# Altium footprint library Con USB.PcbLib: 34 footprints (part 1 of 3)
Each footprint in its own frame and in the unit in brackets; x right, y up, seen from the top. Pads: shape width x height; smd on the part's side, far side on the other; paste and mask are expansions set on the pad; w line width, h text height; cw(c..) or ccw(c..) is an arc to the next point about the centre after c.
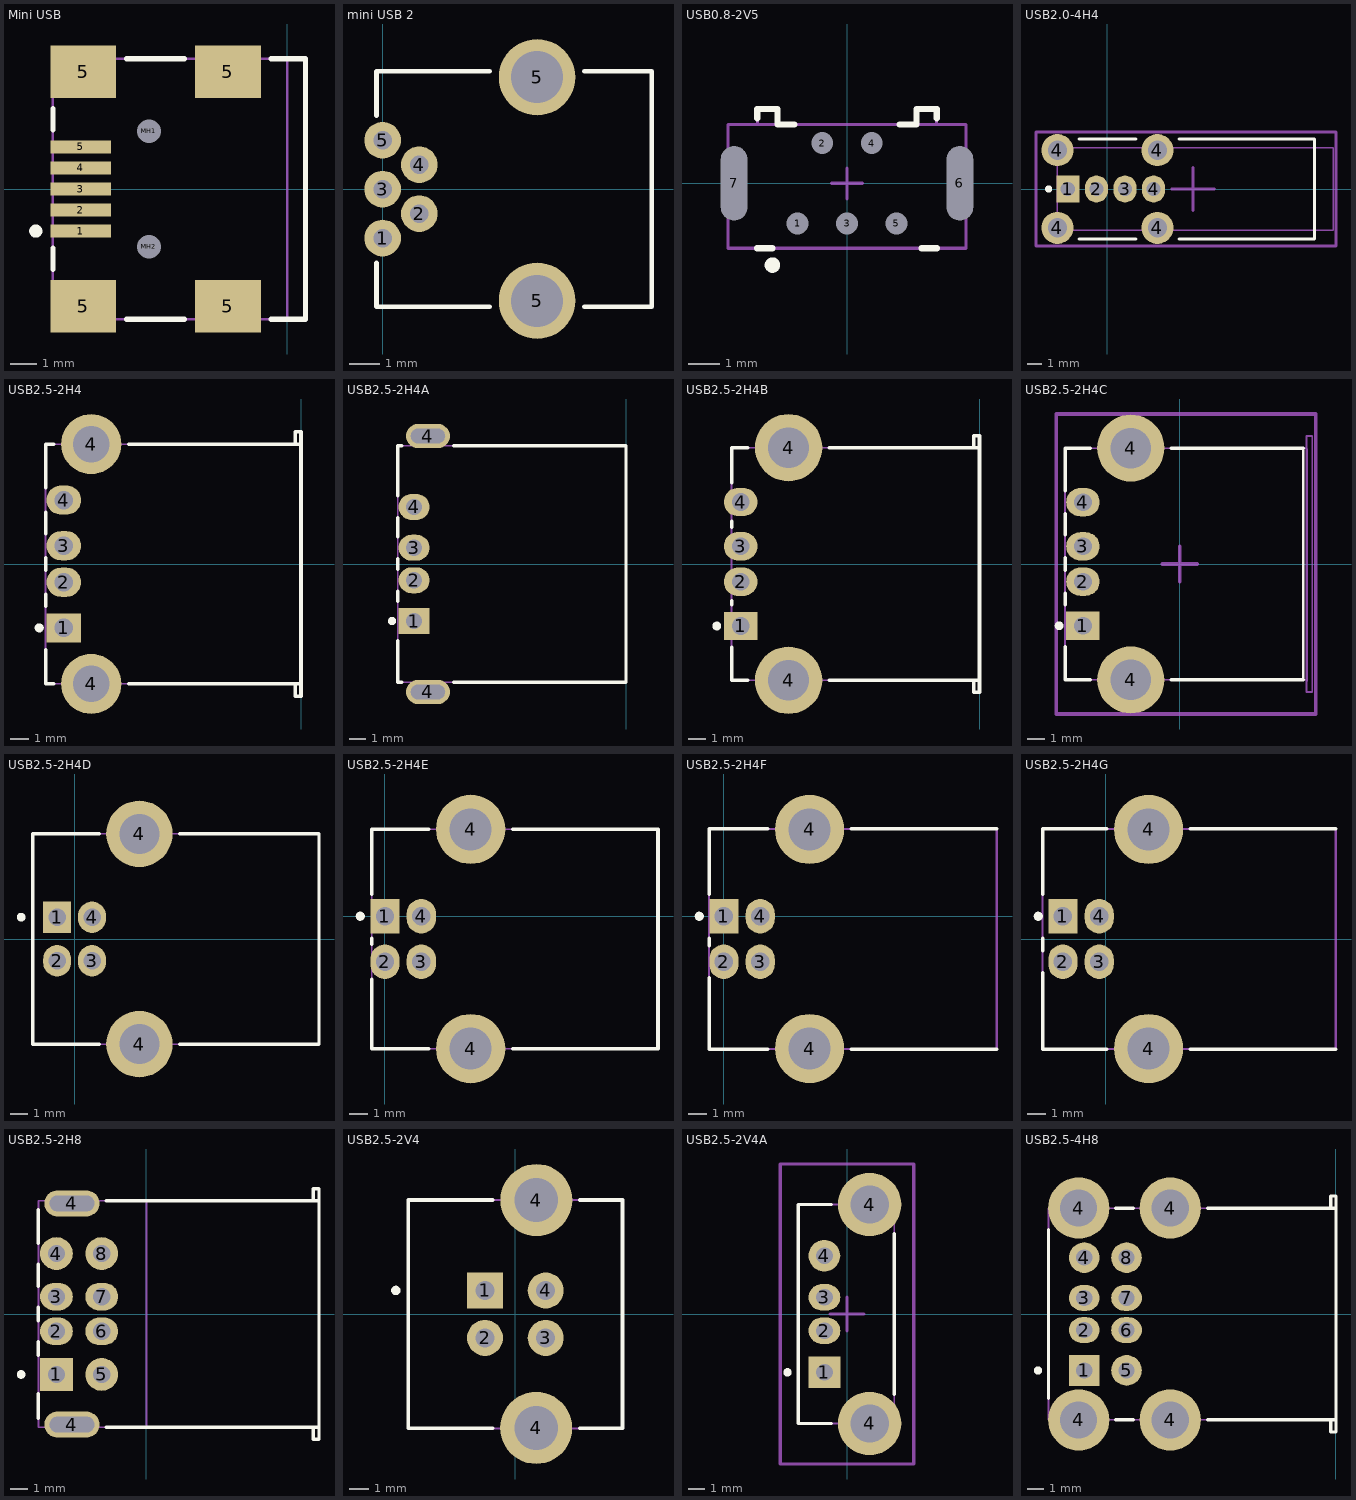
[diagram p0: the footprints below, top view; thin cyan lines are the x and y axes]

## Mini USB [mm]
pads (11):
  rect 2.3x0.5 smd: 1(-7.85,-1.6) 2(-7.85,-0.8) 3(-7.85,0) 4(-7.85,0.8) 5(-7.85,1.6)
  rect 2.5x2 smd: 5(-7.75,-4.45) 5(-7.75,4.45) 5(-2.25,-4.45) 5(-2.25,4.45)
  round 0.6 hole 0.9 unplated: MH1(-5.25,2.2) MH2(-5.25,-2.2)
Top Overlay:
  circle w0.25: c-9.55,-1.6 r0.125
  lines w0.2: -8.9,-3.05 -8.9,-2.25 ; -8.9,2.25 -8.9,3.05 ; -6.1,-4.95 -3.9,-4.95 ; -6.1,4.95 -3.9,4.95 ; -0.6,-4.95 0.7,-4.95 0.7,4.95 -0.6,4.95
Mechanical 1:
  lines w0.1: 0,-4.95 0,4.95
  text "PCB Edge" at 0.432,-4.036 h0.25
Mechanical 13:
  lines w0.1: -8.9,-4.95 0.7,-4.95 0.7,4.95 -8.9,4.95 -8.9,-4.95
3D body "usb_a-usb_b-m5-smd-c.STEP": height 3.93, standoff -1, extent -8.6,-4.95 0.65,4.95
3D body "Samtec-DEFAULT.STEP": height 5.8, standoff -1.8, extent -6.257,-5.644 40.343,5.156

## mini USB 2 [mm]
pads (7):
  round 1.2 hole 0.6: 1(0,-1.6) 2(1.2,-0.8) 3(0,0) 4(1.2,0.8) 5(0,1.6)
  round 2.5 hole 1.7: 5(5.05,-3.65) 5(5.05,3.66)
Top Overlay:
  lines w0.15: -0.2,-2.4 -0.2,-3.85 3.5,-3.85 ; -0.2,2.4 -0.2,3.85 3.5,3.85 ; 6.6,-3.85 8.8,-3.85 8.8,3.85 6.6,3.85
3D body "Samtec-DEFAULT.STEP": height 5.8, standoff -1.8, extent 4.64,-5.588 51.24,5.212
3D body "5877.STEP": height 3.95, standoff -1.8, extent -0.2,-3.85 8.8,3.85

## USB0.8-2V5 [mm] "Connector; USB Mini-B, Type 2, Thru-Hole; 5 Position; Vertical"
height 7.7
pads (7):
  round 0.4 / inner round 0.4 / far side oval 1.1x1.7 hole 0.7: 1(-1.6,-1.3) 2(-0.8,1.3) 3(0,-1.3) 4(0.8,1.3) 5(1.6,-1.3)
  oval 0.55x2.1 / inner oval 0.55x2.1 / far side oval 1.6x3.9 hole 0.85 slot 2.4 at 90 deg: 6(3.65,0) 7(-3.65,0)
Top Overlay:
  circle w0.25: c-2.41,-2.645 r0.125
  lines w0.2: -2.91,-2.1 -2.41,-2.1 ; -2.9,2.1 -2.9,2.4 -2.25,2.4 -2.25,1.9 -1.7,1.9 ; 1.7,1.9 2.25,1.9 2.25,2.4 2.9,2.4 2.9,2.1 ; 2.41,-2.1 2.91,-2.1
Mechanical 13:
  lines w0.1: -2.9,1.9 -2.9,2.4 -2.25,2.4 -2.25,1.9 ; 2.25,1.9 2.25,2.4 2.9,2.4 2.9,1.9 ; -3.85,-2.1 -3.85,1.9 3.85,1.9 3.85,-2.1 -3.85,-2.1
Mechanical 15:
  lines w0.1: -0.5,0 0.5,0 ; 0,-0.5 0,0.5
3D body: height 7.7, standoff 0, extent -2.899,1.901 -2.251,2.399
3D body: height 7.7, standoff 0, extent 2.251,1.901 2.899,2.399
3D body: height 7.7, standoff 0, extent -3.849,-2.099 3.849,1.899

## USB2.0-4H4 [mm] "Connector; USB1.1, Type A, Thru-Hole; 4 Position; Right Angle DESIGNER ABBAS BASEREH"
height 13.83
pads (8):
  rect 1.6x1.9 hole 1: 1(-2.77,0)
  oval 1.6x1.9 hole 1: 2(-0.77,0) 3(1.23,0) 4(3.23,0)
  round 2.25 hole 1.35: 4(-3.5,-2.72) 4(-3.5,2.72) 4(3.5,-2.72) 4(3.5,2.72)
Top Overlay:
  circle w0.25: c-4.12,0 r0.125
  lines w0.2: -1.98,-3.5 2,-3.5 ; -1.98,3.5 2,3.5 ; 5.01,-3.5 14.5,-3.5 14.5,3.5 5.01,3.5
Mechanical 13:
  lines w0.1: -3.5,-2.88 -3.5,2.88 15.79,2.88 15.79,-2.88 -3.5,-2.88
Mechanical 15:
  lines w0.2: 4.5,0 7.5,0 ; 6,-1.5 6,1.5 ; -5,-4 16,-4 16,4 -5,4 -5,-4
3D body "usb_a-usb_a-e.stp": height 14.25, standoff -3.9, extent -3.995,-3.564 15.255,3.556

## USB2.5-2H4 [mm] "Connector; USB1.1, Series A, Reverse Type, Thru-Hole; 4 Position; Right Angle"
height 6.5
pads (6):
  rect 1.9x1.6 hole 1: 1(-13,-3.5)
  oval 1.9x1.6 hole 1: 2(-13,-1) 3(-13,1) 4(-13,3.5)
  round 3.3 hole 2: 4(-11.5,-6.57) 4(-11.5,6.57)
Top Overlay:
  circle w0.25: c-14.35,-3.5 r0.125
  lines w0.2: -14,-4.7 -14,-6.565 -13.55,-6.565 ; -14,-2.3 -14,-1.67 ; -14,-0.33 -14,0.33 ; -14,1.67 -14,2.83 ; -14,4.17 -14,6.565 -13.55,6.565 ; -9.45,-6.565 0,-6.565 ; -9.45,6.565 0,6.565 ; -0.32,-6.565 -0.32,-7.25 0,-7.25 0,7.25 -0.32,7.25 -0.32,6.565
Mechanical 1:
  lines w0.1: 0,-7.25 0,7.25
  text "PCB Edge" at -0.336,-6.303 h0.25
Mechanical 13:
  lines w0.1: -14,-6.565 -14,6.565 -0.32,6.565 -0.32,7.25 0,7.25 0,-7.25 -0.32,-7.25 -0.32,-6.565 -14,-6.565

## USB2.5-2H4A [mm] "Connector; USB1.1, Series A, Reverse Type, Thru-Hole; 4 Position; Right Angle"
height 6.5
pads (6):
  rect 1.9x1.6 hole 1: 1(-13,-3.5)
  oval 1.9x1.6 hole 1: 2(-13,-1) 3(-13,1) 4(-13,3.5)
  oval 2.7x1.5 hole 0.9 slot 2.1 at 0 deg: 4(-12.15,-7.85) 4(-12.15,7.85)
Top Overlay:
  circle w0.25: c-14.35,-3.5 r0.125
  lines w0.2: -14,-4.7 -14,-7.25 -13.74,-7.25 ; -14,-2.3 -14,-1.67 ; -14,-0.33 -14,0.33 ; -14,1.67 -14,2.83 ; -14,4.17 -14,7.25 -13.74,7.25 ; -10.56,-7.25 0,-7.25 0,7.25 -10.56,7.25
Mechanical 1:
  lines w0.1: 0,-7.25 0,7.25
  text "PCB Edge" at -0.324,-6.966 h0.25
Mechanical 13:
  lines w0.1: -14,-7.25 0,-7.25 0,7.25 -14,7.25 -14,-7.25

## USB2.5-2H4B [mm] "Connector; USB1.1, Type A, Thru-Hole; 4 Position; Right Angle"
height 7.01
pads (6):
  rect 1.9x1.6 hole 1: 1(-13.49,-3.5)
  oval 1.9x1.6 hole 1: 2(-13.49,-1) 3(-13.49,1) 4(-13.49,3.5)
  round 3.8 hole 2.3: 4(-10.78,-6.57) 4(-10.78,6.57)
Top Overlay:
  circle w0.25: c-14.84,-3.5 r0.125
  lines w0.2: -14,-4.7 -14,-6.565 -13.08,-6.565 ; -14,-2.3 -14,-2.09 ; -14,2.09 -14,2.41 ; -14,4.59 -14,6.565 -13.08,6.565 ; -8.48,-6.565 0,-6.565 ; -8.48,6.565 0,6.565 ; -0.32,-6.565 -0.32,-7.25 0,-7.25 0,-6.565 ; -0.32,6.565 -0.32,7.25 0,7.25 0,6.565 ; 0,-6.565 0,6.565
Mechanical 13:
  lines w0.1: -14,-6.565 -0.32,-6.565 -0.32,-7.25 0,-7.25 0,7.25 -0.32,7.25 -0.32,6.565 -14,6.565 -14,-6.565

## USB2.5-2H4C [mm] "Connector; USB1.1, Type A, Thru-Hole; 4 Position; Right Angle DESIGNER ABBAS BASEREH"
height 7.01
pads (6):
  rect 1.9x1.6 hole 1: 1(-5.49,-3.5)
  oval 1.9x1.6 hole 1: 2(-5.49,-1) 3(-5.49,1) 4(-5.49,3.5)
  round 3.8 hole 2.3: 4(-2.78,-6.57) 4(-2.78,6.57)
Top Overlay:
  circle w0.25: c-6.84,-3.5 r0.125
  lines w0.15: 7,-6.565 7,6.565
  lines w0.2: -6.5,-4.7 -6.5,-6.565 -5.08,-6.565 ; -6.5,-2.3 -6.5,-1.66 ; -6.5,-0.34 -6.5,0.34 ; -6.5,1.66 -6.5,2.84 ; -6.5,4.16 -6.5,6.565 -5.08,6.565 ; -0.48,-6.565 7,-6.565 ; -0.48,6.565 7,6.565
Mechanical 1:
  lines w0.15: 7.2,-6.6 7.2,6.5
Mechanical 13:
  lines w0.1: -6.5,-6.565 7.18,-6.565 7.18,-7.25 7.5,-7.25 7.5,7.25 7.18,7.25 7.18,6.565 -6.5,6.565 -6.5,-6.565
Mechanical 15:
  lines w0.2: -1,0 1,0 ; 0,-1 0,1 ; -7,-8.5 7.7,-8.5 7.7,8.5 -7,8.5 -7,-8.5
3D body "14388.STEP": height 7.35, standoff -3.5, extent -6.902,-7.9 7.598,7.9

## USB2.5-2H4D [mm] "Connector; USB1.1, Type B, Thru-Hole; 4 Position; Right Angle"
height 11.1
pads (6):
  rect 1.6x1.8 hole 1: 1(-1,1.25)
  oval 1.6x1.8 hole 1: 2(-1,-1.25) 3(1,-1.25) 4(1,1.25)
  round 3.8 hole 2.3: 4(3.71,-6.02) 4(3.71,6.02)
Top Overlay:
  circle w0.25: c-3.06,1.25 r0.125
  lines w0.2: 1.41,-6.02 -2.41,-6.02 -2.41,6.02 1.41,6.02 ; 6.01,-6.02 13.99,-6.02 13.99,6.02 6.01,6.02
Mechanical 13:
  lines w0.1: -2.41,-6.02 13.99,-6.02 13.99,6.02 -2.41,6.02 -2.41,-6.02
3D body "Samtec-DEFAULT.STEP": height 11.05, standoff 0.55, extent 3.937,-5.625 69.887,5.575
3D body "14389.STEP": height 10.95, standoff -3.7, extent -2.5,-7.45 14,7.45

## USB2.5-2H4E [mm] "Connector; USB1.1, Type B, Thru-Hole; 4 Position; Right Angle"
height 11.5
pads (6):
  rect 1.6x1.9 hole 1: 1(0,0)
  oval 1.6x1.9 hole 1: 2(0,-2.5) 3(2,-2.5) 4(2,0)
  round 3.8 hole 2.3: 4(4.71,-7.27) 4(4.71,4.77)
Top Overlay:
  circle w0.25: c-1.35,0 r0.125
  lines w0.2: -0.72,-3.46 -0.72,-7.27 2.41,-7.27 ; -0.72,-1.54 -0.72,-1.2 ; -0.72,1.2 -0.72,4.77 2.41,4.77 ; 7.01,-7.27 14.99,-7.27 14.99,4.77 7.01,4.77
Mechanical 13:
  lines w0.1: -0.72,-7.27 14.99,-7.27 14.99,4.77 -0.72,4.77 -0.72,-7.27
3D body "14389.STEP": height 10.95, standoff -3.7, extent -1.5,-8.7 15,6.2

## USB2.5-2H4F [mm] "Connector; USB1.1, Type B, Thru-Hole; 4 Position; Right Angle"
height 10.95
pads (6):
  rect 1.6x1.9 hole 1: 1(0,0)
  oval 1.6x1.9 hole 1: 2(0,-2.5) 3(2,-2.5) 4(2,0)
  round 3.8 hole 2.3: 4(4.71,-7.27) 4(4.71,4.77)
Top Overlay:
  circle w0.25: c-1.35,0 r0.125
  lines w0.2: -0.81,-3.39 -0.81,-7.3 2.41,-7.3 ; -0.81,-1.61 -0.81,-1.2 ; -0.81,1.2 -0.81,4.8 2.41,4.8 ; 7.01,-7.3 14.99,-7.3 ; 7.01,4.8 14.99,4.8
Mechanical 1:
  lines w0.1: 15.01,-7.3 15.01,4.8
  text "PCB Edge" at 14.685,-6.902 h0.25
Mechanical 13:
  lines w0.1: -0.81,-7.3 14.99,-7.3 14.99,4.8 -0.81,4.8 -0.81,-7.3
3D body "14389.STEP": height 10.95, standoff -3.7, extent -1.5,-8.7 15,6.2

## USB2.5-2H4G [mm] "Connector; USB1.1, Type B, Thru-Hole; 4 Position; Right Angle"
height 10.95
pads (6):
  rect 1.6x1.9 hole 1: 1(-2.355,1.25)
  oval 1.6x1.9 hole 1: 2(-2.355,-1.25) 3(-0.355,-1.25) 4(-0.355,1.25)
  round 3.8 hole 2.3: 4(2.355,-6.02) 4(2.355,6.02)
Top Overlay:
  circle w0.25: c-3.705,1.25 r0.125
  lines w0.2: -3.465,-1.85 -3.465,-6.05 0.055,-6.05 ; -3.465,-0.65 -3.465,0.05 ; -3.465,2.45 -3.465,6.05 0.055,6.05 ; 4.655,-6.05 12.635,-6.05 ; 4.655,6.05 12.635,6.05
Mechanical 1:
  lines w0.1: 12.655,-6.05 12.655,6.05
  text "PCB Edge" at 12.33,-5.651 h0.25
Mechanical 13:
  lines w0.1: -3.465,-6.05 12.635,-6.05 12.635,6.05 -3.465,6.05 -3.465,-6.05
3D body "14389.STEP": height 10.95, standoff -3.7, extent -3.855,-7.45 12.645,7.45
3D body "Samtec-DEFAULT.STEP": height 11.05, standoff 0.55, extent 2.582,-5.625 68.532,5.575

## USB2.5-2H8 [mm] "Connector; USB1.1, Type A, Thru-Hole; 4x4 Position; Right Angle"
height 15.51
pads (10):
  rect 1.9x1.9 hole 1: 1(-5.21,-3.5)
  oval 1.9x1.6 hole 1: 2(-5.21,-1) 3(-5.21,1) 6(-2.59,-1) 7(-2.59,1)
  round 1.9 hole 1: 4(-5.21,3.5) 5(-2.59,-3.5) 8(-2.59,3.5)
  oval 3.2x1.5 hole 0.9 slot 2.6 at 0 deg: 4(-4.31,-6.4) 4(-4.31,6.4)
Top Overlay:
  circle w0.25: c-7.25,-3.5 r0.125
  lines w0.2: -6.25,-6.03 -6.25,-4.62 ; -6.25,-2.38 -6.25,-1.61 ; -6.25,-0.4 -6.25,0.4 ; -6.25,1.61 -6.25,2.88 ; -6.25,4.1 -6.25,6.03 ; -2.32,-6.55 9.99,-6.55 ; -2.32,6.55 9.99,6.55 ; 9.67,-6.55 9.67,-7.25 9.99,-7.25 9.99,-6.55 ; 9.67,6.55 9.67,7.25 9.99,7.25 9.99,6.55 ; 9.99,-6.55 9.99,6.55
Mechanical 1:
  lines w0.1: 0,-6.55 0,6.55
  text "PCB Edge" at 0.347,-6.248 h0.2
Mechanical 13:
  lines w0.1: -6.25,-6.55 -6.25,6.55 9.67,6.55 9.67,7.25 9.99,7.25 9.99,-7.25 9.67,-7.25 9.67,-6.55 -6.25,-6.55

## USB2.5-2V4 [mm] "Connector; USB1.1, Type B, Thru-Hole; 4 Position; Vertical"
height 16
pads (6):
  rect 1.9x1.9 hole 1: 1(-1.6,1.25)
  round 1.9 hole 1: 2(-1.6,-1.25) 3(1.6,-1.25) 4(1.6,1.25)
  round 3.8 hole 2.3: 4(1.1,-6) 4(1.11,6.02)
Top Overlay:
  circle w0.25: c-6.3,1.25 r0.125
  lines w0.2: -1.19,-6.02 -5.65,-6.02 -5.65,6.02 -1.19,6.02 ; 3.41,-6.02 5.65,-6.02 5.65,6.02 3.41,6.02
Mechanical 13:
  lines w0.1: -5.65,-6.02 -5.65,6.02 5.65,6.02 5.65,-6.02 -5.65,-6.02
3D body "12039.STEP": height 15.62, standoff -4.02, extent -5.753,-7.571 5.703,7.571

## USB2.5-2V4A [mm] "Connector; USB1.1, Type A, Thru-Hole; 4 Position; Vertical DESIGNER ABBAS BASEREH"
height 15
pads (6):
  rect 1.9x1.9 hole 1: 1(-1.355,-3.5)
  oval 1.9x1.6 hole 1: 2(-1.355,-1) 3(-1.355,1)
  round 1.9 hole 1: 4(-1.355,3.5)
  round 3.8 hole 2.3: 4(1.355,-6.57) 4(1.355,6.57)
Top Overlay:
  circle w0.25: c-3.575,-3.5 r0.125
  lines w0.2: -0.945,-6.57 -2.925,-6.57 -2.925,6.57 -0.945,6.57 ; 2.835,-4.81 2.835,4.81
Mechanical 13:
  lines w0.1: -2.925,-6.57 2.835,-6.57 2.835,6.57 -2.925,6.57 -2.925,-6.57
Mechanical 15:
  lines w0.2: -1,0 1,0 ; 0,-1 0,1 ; -4,-9 4,-9 4,9 -4,9 -4,-9
3D body "14382.STEP": height 15, standoff -2.99, extent -3.865,-7.99 3.775,7.99

## USB2.5-4H8 [mm] "Connector; USB1.1, Type A, Thru-Hole; 4x4 Position; Right Angle"
height 15.82
pads (12):
  rect 1.9x1.9 hole 1: 1(-15.61,-3.5)
  oval 1.9x1.6 hole 1: 2(-15.61,-1) 3(-15.61,1) 6(-12.99,-1) 7(-12.99,1)
  round 3.8 hole 2.3: 4(-15.96,-6.57) 4(-15.96,6.57) 4(-10.28,-6.57) 4(-10.28,6.57)
  round 1.9 hole 1: 4(-15.61,3.5) 5(-12.99,-3.5) 8(-12.99,3.5)
Top Overlay:
  circle w0.25: c-18.48,-3.5 r0.125
  lines w0.2: -17.83,-5.23 -17.83,5.23 ; -13.66,-6.565 -12.58,-6.565 ; -13.66,6.565 -12.58,6.565 ; -7.97,-6.565 0,-6.565 ; -7.97,6.565 0,6.565 ; -0.32,-6.565 -0.32,-7.315 0,-7.315 0,-6.565 ; -0.32,6.565 -0.32,7.315 0,7.315 0,6.565 ; 0,-6.565 0,6.565
Mechanical 13:
  lines w0.1: -17.83,-6.565 -0.32,-6.565 -0.32,-7.315 0,-7.315 0,7.315 -0.32,7.315 -0.32,6.565 -17.83,6.565 -17.83,-6.565